# EAGLE library part MCP6004 (library VidBoi)
MCP6004 - Ronald Sardarian 4 channel Op-Amp
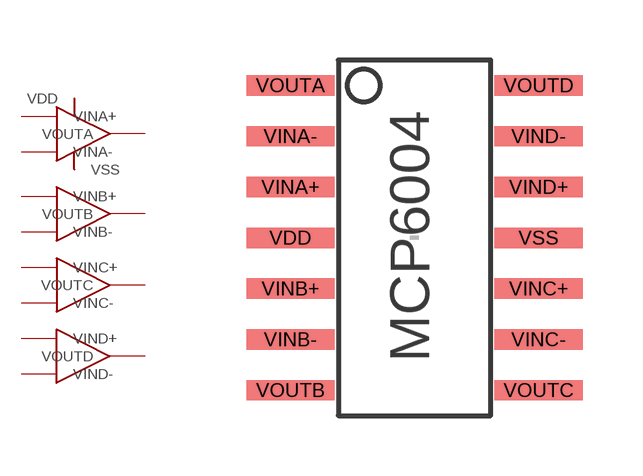
[diagram p0: symbol with the pads of MCP6004ISL; footprint MCP6004ISL]

Designator prefix -

## MCP6004SOIC-14  [MCP6004ISL]
VDD  VDD
VINA+  VINA+
VINA-  VINA-
VINB+  VINB+
VINB-  VINB-
VINC+  VINC+
VINC-  VINC-
VIND+  VIND+
VIND-  VIND-
VOUTA  VOUTA
VOUTB  VOUTB
VOUTC  VOUTC
VOUTD  VOUTD
VSS  VSS

## Footprint MCP6004ISL (pad centres in mm)
smd 2.21 x 0.51: VDD -3.105,0; VINA+ -3.105,1.27; VINA- -3.105,2.54; VINB+ -3.105,-1.27; VINB- -3.105,-2.54; VINC+ 3.105,-1.27; VINC- 3.105,-2.54; VIND+ 3.105,1.27; VIND- 3.105,2.54; VOUTA -3.105,3.81; VOUTB -3.105,-3.81; VOUTC 3.105,-3.81; VOUTD 3.105,3.81; VSS 3.105,0